# Altium footprint library PcbLib1.PcbLib: 58 footprints (part 3 of 4)
Each footprint in its own frame and in the unit in brackets; x right, y up, seen from the top. Pads: shape width x height; smd on the part's side, far side on the other; paste and mask are expansions set on the pad; w line width, h text height; cw(c..) or ccw(c..) is an arc to the next point about the centre after c.
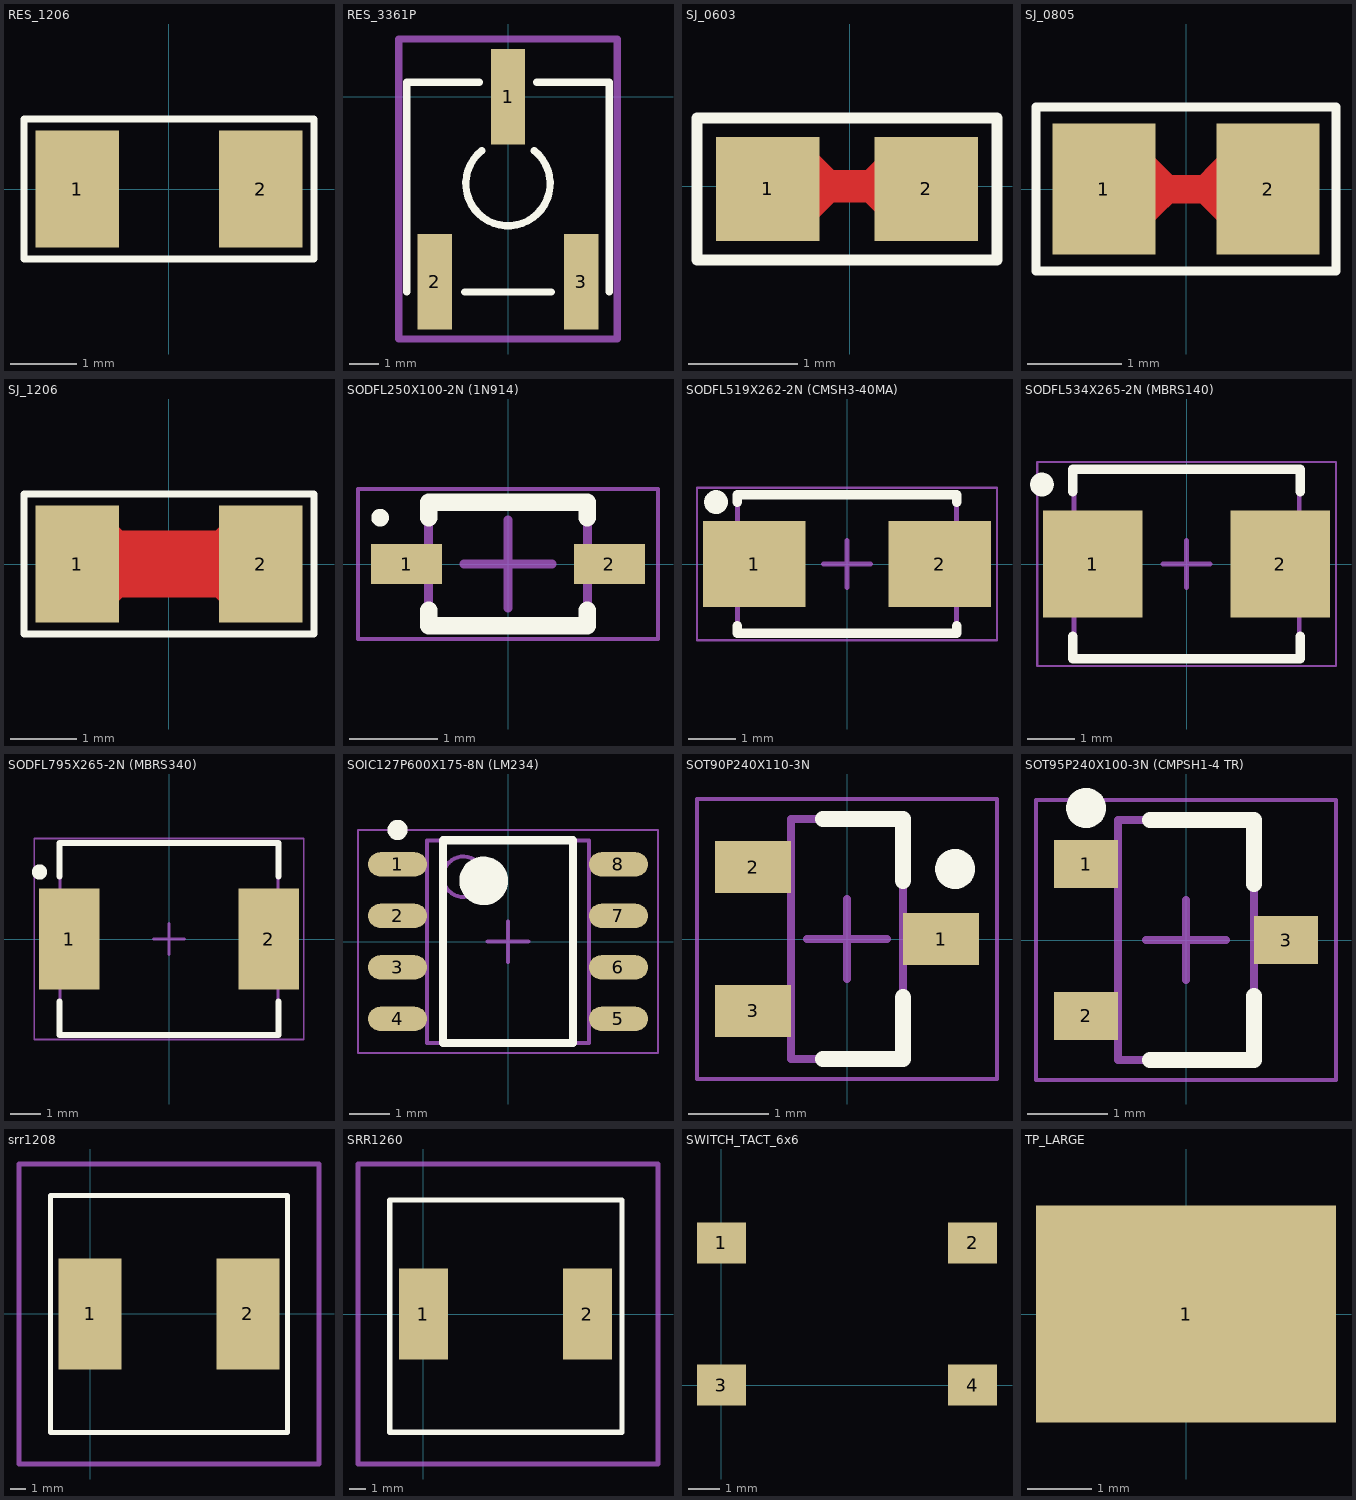
[diagram p2: the footprints below, top view; thin cyan lines are the x and y axes]

## RES_1206 [mm]
pads (2):
  rect 1.25x1.75 smd: 1(-1.375,0) 2(1.375,0)
Top Overlay:
  lines w0.1: -2.175,-1.05 2.175,-1.05 2.175,1.05 -2.175,1.05 -2.175,-1.05
3D body: height 0.71, standoff 0, extent -1.5,-0.7 1.5,0.7

## RES_3361P [mm] "POT"
pads (3):
  rect 1.19x3.3 smd: 1(0,0) 2(-2.54,-6.4) 3(2.54,-6.4)
Top Overlay:
  lines w0.254: -3.5,-6.75 -3.5,0.5 -1,0.5 ; -1.5,-6.75 1.5,-6.75 ; -0.911,-1.862 ccw(c0,-3) 0.911,-1.862 ; 1,0.5 3.5,0.5 3.5,-6.75
Mechanical 1:
  lines w0.254: -3.775,-8.375 3.775,-8.375 3.775,2 -3.775,2 -3.775,-8.375
3D body: height 5.21, standoff 0, extent -3.5,-6.8 3.5,0.5

## SJ_0603 [mm] "0603 net tie"
pads (2):
  rect 0.95x0.95 smd paste-2.54: 1(-0.75,-0.025) 2(0.7,-0.025)
Top Layer:
  rectangle: -0.275,-0.15 0.225,0.15
  region: 0,0 -0.3,-0.3 -0.3,0.3
  region: 0,0 0.3,0.3 0.3,-0.3
Top Overlay:
  lines w0.1: -1.4,-0.675 1.35,-0.675 1.35,0.625 -1.4,0.625 -1.4,-0.675

## SJ_0805 [mm] "0805 net tie"
pads (2):
  rect 1.1x1.4 smd paste-2.54: 1(-0.875,0) 2(0.875,0)
Top Layer:
  rectangle: -0.325,-0.155 0.325,0.15
  region: 0,0 -0.4,0.4 -0.4,-0.4
  region: 0,0 0.4,-0.4 0.4,0.4
Top Overlay:
  lines w0.1: -1.6,-0.875 1.6,-0.875 1.6,0.875 -1.6,0.875 -1.6,-0.875

## SJ_1206 [mm] "A big fat solder jumper for high-current"
pads (2):
  rect 1.25x1.75 smd: 1(-1.375,0) 2(1.375,0)
Top Layer:
  rectangle: -0.7,-0.5 0.7,0.5
  region: -0.2,0 -0.8,0.6 -0.8,-0.6
  region: 0.2,0 0.8,-0.6 0.8,0.6
Top Overlay:
  lines w0.1: -2.175,-1.05 2.175,-1.05 2.175,1.05 -2.175,1.05 -2.175,-1.05

## SODFL250X100-2N (1N914) [mm] "SODFL, 2-Leads, Body 1.25x2.50mm,"
height 1
pads (2):
  rect 0.8x0.45 smd: 1(-1.15,0) 2(1.15,0)
Top Overlay:
  circle w0.1: c-1.45,0.525 r0.05
  lines w0.2: -0.9,-0.525 -0.9,-0.7 0.9,-0.7 0.9,-0.525 ; -0.9,0.525 -0.9,0.7 0.9,0.7 0.9,0.525
Mechanical 13:
  lines w0.1: -0.9,-0.675 0.9,-0.675 0.9,0.675 -0.9,0.675 -0.9,-0.675
Mechanical 15:
  lines w0.05: -1.7,-0.85 1.7,-0.85 1.7,0.85 -1.7,0.85 -1.7,-0.85
  lines w0.1: -0.5,0 0.5,0 ; 0,-0.5 0,0.5
3D body: height 1, standoff 0, extent -0.9,-0.675 0.9,0.675

## SODFL519X262-2N (CMSH3-40MA) [mm] "SODFL, 2-Leads, Body 2.60x5.19mm,"
height 2.62
pads (2):
  rect 2.15x1.8 smd: 1(-1.95,0) 2(1.95,0)
Top Overlay:
  circle w0.25: c-2.75,1.3 r0.125
  lines w0.2: -2.3,-1.3 -2.3,-1.45 2.3,-1.45 2.3,-1.3 ; -2.3,1.3 -2.3,1.45 2.3,1.45 2.3,1.3
Mechanical 13:
  lines w0.1: -2.3,-1.46 2.3,-1.46 2.3,1.46 -2.3,1.46 -2.3,-1.46
Mechanical 15:
  lines w0.05: -3.15,-1.6 3.15,-1.6 3.15,1.6 -3.15,1.6 -3.15,-1.6
  lines w0.1: -0.5,0 0.5,0 ; 0,-0.5 0,0.5
3D body: height 2.62, standoff 0, extent -2.3,-1.46 2.3,1.46

## SODFL534X265-2N (MBRS140) [mm] "SODFL, 2-Leads, Body 3.63x5.34mm,"
height 2.65
pads (2):
  rect 2.1x2.25 smd: 1(-1.975,0) 2(1.975,0)
Top Overlay:
  circle w0.25: c-3.05,1.675 r0.125
  lines w0.2: -2.4,-1.525 -2.4,-2 2.4,-2 2.4,-1.525 ; -2.4,1.525 -2.4,2 2.4,2 2.4,1.525
Mechanical 13:
  lines w0.1: -2.375,-1.975 2.375,-1.975 2.375,1.975 -2.375,1.975 -2.375,-1.975
Mechanical 15:
  lines w0.05: -3.15,-2.15 3.15,-2.15 3.15,2.15 -3.15,2.15 -3.15,-2.15
  lines w0.1: -0.5,0 0.5,0 ; 0,-0.5 0,0.5
3D body: height 2.65, standoff 0, extent -2.375,-1.975 2.375,1.975

## SODFL795X265-2N (MBRS340) [mm] "SODFL, 2-Leads, Body 5.90x7.95mm,"
height 2.65
pads (2):
  rect 2x3.3 smd: 1(-3.275,0) 2(3.275,0)
Top Overlay:
  circle w0.25: c-4.25,2.2 r0.125
  lines w0.2: -3.6,-2.05 -3.6,-3.15 3.6,-3.15 3.6,-2.05 ; -3.6,2.05 -3.6,3.15 3.6,3.15 3.6,2.05
Mechanical 13:
  lines w0.1: -3.575,-3.125 -3.575,3.125 3.575,3.125 3.575,-3.125 -3.575,-3.125
Mechanical 15:
  lines w0.05: -4.425,-3.3 -4.425,3.3 4.425,3.3 4.425,-3.3 -4.425,-3.3
  lines w0.1: -0.5,0 0.5,0 ; 0,-0.5 0,0.5
3D body: height 2.65, standoff 0, extent -3.575,-3.125 3.575,3.125

## SOIC127P600X175-8N (LM234) [mm] "SOIC, 8-Leads, Body 4.90x3.90mm, Pitch 1.27mm,"
height 1.75
pads (8):
  oval 1.45x0.6 smd: 1(-2.725,1.905) 2(-2.725,0.635) 3(-2.725,-0.635) 4(-2.725,-1.905) 5(2.725,-1.905) 6(2.725,-0.635) 7(2.725,0.635) 8(2.725,1.905)
Top Overlay:
  circle w0.25: c-2.725,2.755 r0.125
  circle w0.6: c-0.6,1.5 r0.3
  lines w0.2: -1.6,-2.5 -1.6,2.5 1.6,2.5 1.6,-2.5 -1.6,-2.5
Mechanical 13:
  circle w0.1: c-1.1,1.6 r0.5
  lines w0.1: -2,-2.5 -2,2.5 2,2.5 2,-2.5 -2,-2.5
Mechanical 15:
  lines w0.05: -3.7,-2.75 -3.7,2.75 3.7,2.75 3.7,-2.75 -3.7,-2.75
  lines w0.1: -0.5,0 0.5,0 ; 0,-0.5 0,0.5
3D body: height 1.75, standoff 0.1, extent -2,-2.5 2,2.5

## SOT90P240X110-3N [mm] "SOT23, 3-Leads, Body 2.90x2.40mm, Pitch 0.90mm, MMBT3904"
height 1.1
pads (3):
  rect 0.95x0.65 smd: 1(1.175,0) 2(-1.175,0.9) 3(-1.175,-0.9)
Top Overlay:
  circle w0.25: c1.35,0.875 r0.125
  lines w0.203: -0.3,-1.5 0.7,-1.5 0.7,-0.727 ; -0.3,1.5 0.7,1.5 0.7,0.727
Mechanical 13:
  lines w0.1: -0.7,-1.5 -0.7,1.5 0.7,1.5 0.7,-1.5 -0.7,-1.5
Mechanical 15:
  lines w0.05: -1.875,-1.75 -1.875,1.75 1.875,1.75 1.875,-1.75 -1.875,-1.75
  lines w0.1: -0.5,0 0.5,0 ; 0,-0.5 0,0.5
3D body: height 1.1, standoff 0.01, extent -0.7,-1.5 0.7,1.5

## SOT95P240X100-3N (CMPSH1-4 TR) [mm] "SOT23, 3-Leads, Body 2.90x2.40mm,"
height 1
pads (3):
  rect 0.8x0.6 smd: 1(-1.25,0.95) 2(-1.25,-0.95) 3(1.25,0)
Top Overlay:
  circle w0.25: c-1.25,1.65 r0.125
  lines w0.2: -0.45,-1.5 0.85,-1.5 0.85,-0.7 ; -0.45,1.5 0.85,1.5 0.85,0.7
Mechanical 13:
  lines w0.1: -0.85,-1.5 -0.85,1.5 0.85,1.5 0.85,-1.5 -0.85,-1.5
Mechanical 15:
  lines w0.05: -1.875,-1.75 -1.875,1.75 1.875,1.75 1.875,-1.75 -1.875,-1.75
  lines w0.1: -0.5,0 0.5,0 ; 0,-0.5 0,0.5
3D body: height 1, standoff 0.1, extent -0.85,-1.5 0.85,1.5

## srr1208 [mm]
pads (2):
  rect 4x7 smd: 1(0,0) 2(10,0)
Top Overlay:
  lines w0.308: -2.5,-7.5 12.5,-7.5 12.5,7.5 -2.5,7.5 -2.5,-7.5
Mechanical 15:
  lines w0.308: -4.5,-9.5 14.5,-9.5 14.5,9.5 -4.5,9.5 -4.5,-9.5

## SRR1260 [mm]
pads (2):
  rect 2.9x5.4 smd: 1(0,0) 2(9.7,0)
Top Overlay:
  lines w0.305: -2,-7 -2,6.75 11.75,6.75 11.75,-7 -2,-7
Mechanical 15:
  lines w0.305: -3.875,-8.875 -3.875,8.875 13.875,8.875 13.875,-8.875 -3.875,-8.875

## SWITCH_TACT_6x6 [mm]
pads (4):
  rect 1.55x1.3 smd: 1(0,4.5) 2(7.95,4.5) 3(0,0) 4(7.95,0)

## TP_LARGE [mm] "5016"
pads (1):
  rect 4.7x3.4 smd: 1(0,0)